# Altium footprint library GhaniLibrary.PcbLib: 33 footprints (part 1 of 3)
Each footprint in its own frame and in the unit in brackets; x right, y up, seen from the top. Pads: shape width x height; smd on the part's side, far side on the other; paste and mask are expansions set on the pad; w line width, h text height; cw(c..) or ccw(c..) is an arc to the next point about the centre after c.
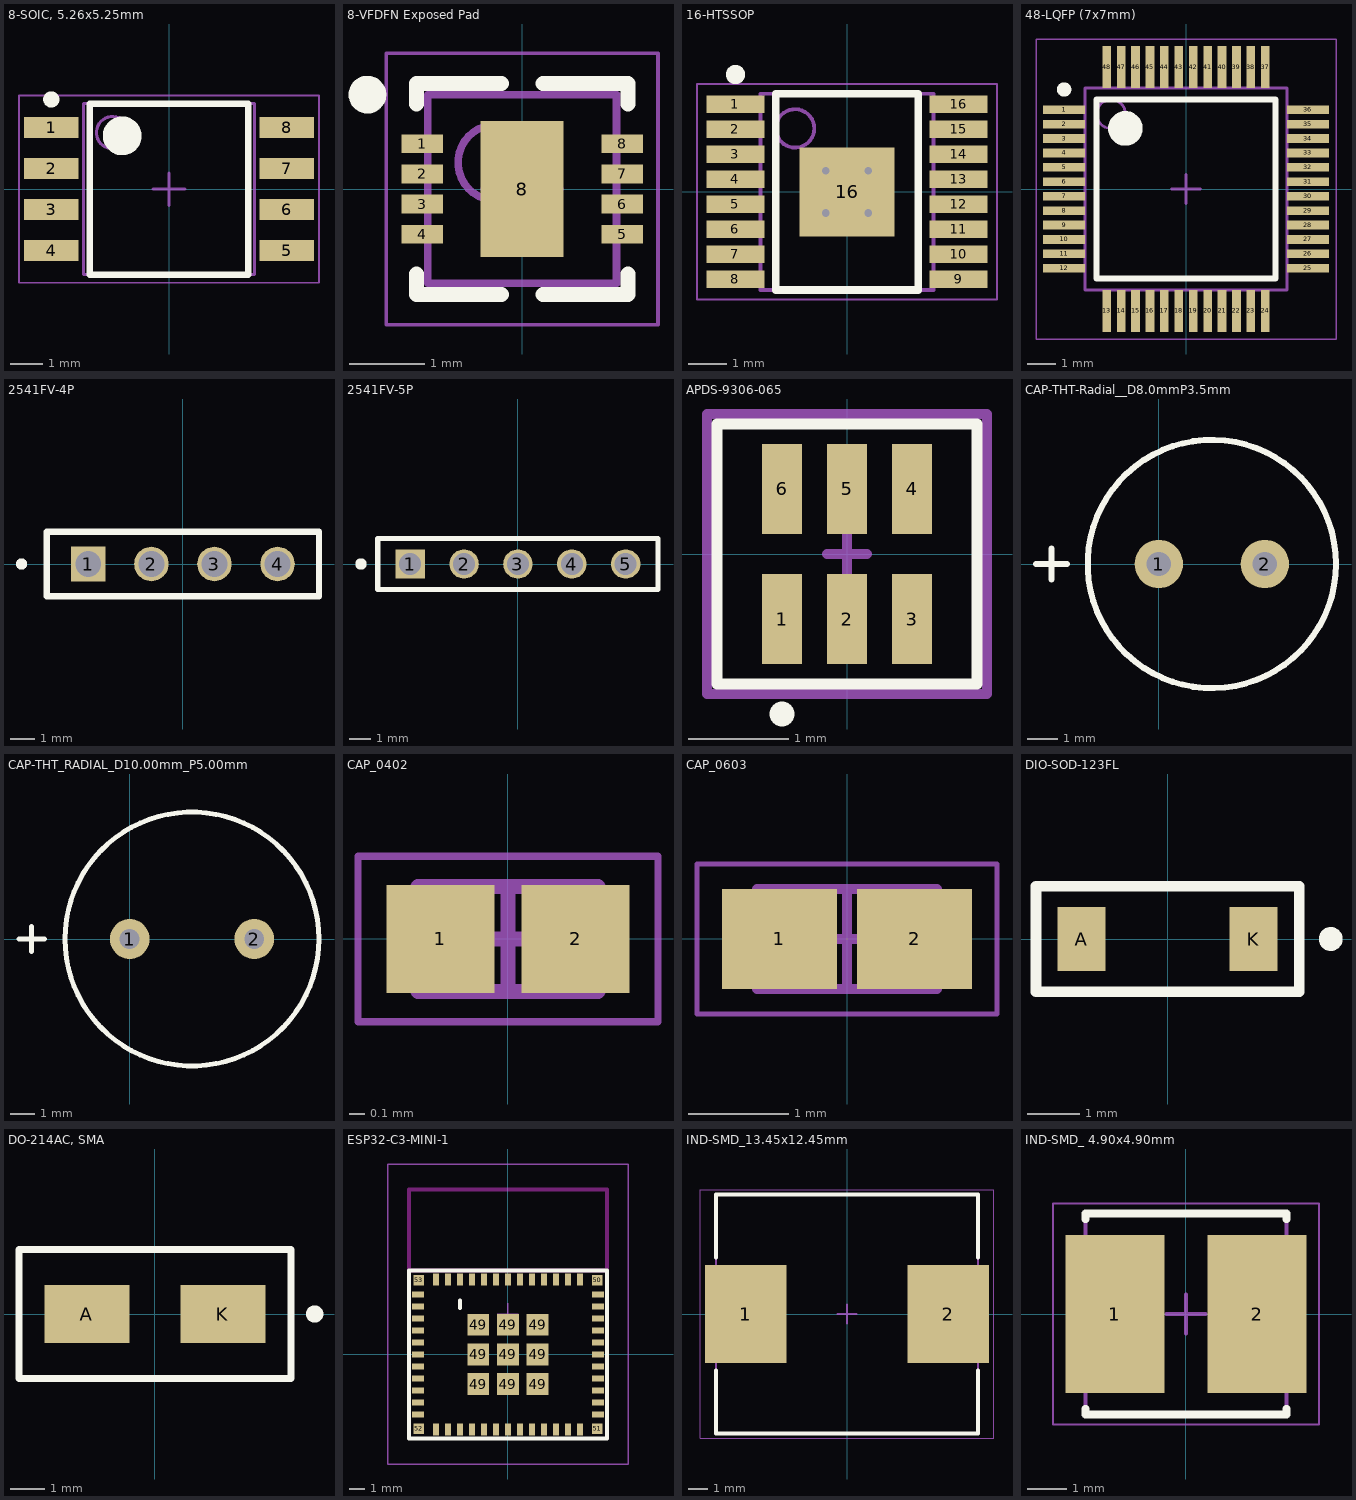
[diagram p0: the footprints below, top view; thin cyan lines are the x and y axes]

## 8-SOIC, 5.26x5.25mm [mm] "SOIC, 8-Leads, Body 5.26x5.25mm, Pitch 1.27mm, IPC Medium Density"
height 2.03
pads (8):
  rect 1.7x0.65 smd: 1(-3.65,1.905) 2(-3.65,0.635) 3(-3.65,-0.635) 4(-3.65,-1.905) 5(3.65,-1.905) 6(3.65,-0.635) 7(3.65,0.635) 8(3.65,1.905)
Top Overlay:
  circle w0.25: c-3.65,2.78 r0.125
  circle w0.6: c-1.45,1.65 r0.3
  lines w0.2: -2.45,-2.65 -2.45,2.65 2.45,2.65 2.45,-2.65 -2.45,-2.65
Mechanical 13:
  circle w0.1: c-1.75,1.75 r0.5
  lines w0.1: -2.65,-2.65 -2.65,2.65 2.65,2.65 2.65,-2.65 -2.65,-2.65
Mechanical 15:
  lines w0.05: -4.65,-2.9 -4.65,2.9 4.65,2.9 4.65,-2.9 -4.65,-2.9
  lines w0.1: -0.5,0 0.5,0 ; 0,-0.5 0,0.5
3D body "8-SOIC, 5.26x5.25mm .step": height 2.03, standoff 0, extent -3.97,-2.65 3.97,2.65

## 8-VFDFN Exposed Pad [mm] "QFN, 8-Leads, Body 2.45x2.45mm, Pitch 0.50mm/0.40mm, Thermal Pad 1.10x1.80mm, IPC Medium Density"
height 1
pads (9):
  rect 0.55x0.25 smd: 1(-1.325,0.6) 2(-1.325,0.2) 3(-1.325,-0.2) 4(-1.325,-0.6) 5(1.325,-0.6) 6(1.325,-0.2) 7(1.325,0.2) 8(1.325,0.6)
  rect 1.1x1.8 smd: 8(0,0)
Top Overlay:
  circle w0.25: c-2.05,1.25 r0.125
  lines w0.2: -1.4,-1.125 -1.4,-1.4 -0.275,-1.4 ; -1.4,1.125 -1.4,1.4 -0.275,1.4 ; 0.275,-1.4 1.4,-1.4 1.4,-1.125 ; 0.275,1.4 1.4,1.4 1.4,1.125
Mechanical 13:
  circle w0.1: c-0.35,0.35 r0.5
  lines w0.1: -1.25,-1.25 1.25,-1.25 1.25,1.25 -1.25,1.25 -1.25,-1.25
Mechanical 15:
  lines w0.05: -1.8,-1.8 1.8,-1.8 1.8,1.8 -1.8,1.8 -1.8,-1.8
  lines w0.1: -0.5,0 0.5,0 ; 0,-0.5 0,0.5
3D body "8-VFDFN Exposed Pad.step": height 1, standoff 0, extent -1.251,-1.25 1.251,1.25

## 16-HTSSOP [mm] "HTSSOP, 16-Leads, Body 5.00x4.40mm, Pitch 0.65mm, Thermal Pad 2.31x2.46mm, IPC Medium Density"
height 1.2
pads (17):
  rect 1.5x0.45 smd: 1(-2.9,2.275) 2(-2.9,1.625) 3(-2.9,0.975) 4(-2.9,0.325) 5(-2.9,-0.325) 6(-2.9,-0.975) 7(-2.9,-1.625) 8(-2.9,-2.275) 9(2.9,-2.275) 10(2.9,-1.625) 11(2.9,-0.975) 12(2.9,-0.325) 13(2.9,0.325) 14(2.9,0.975) 15(2.9,1.625) 16(2.9,2.275)
  rect 2.46x2.31 smd: 16(0,0)
via 0.55,-0.55 diameter 0.5 hole 0.2
via -0.55,-0.55 diameter 0.5 hole 0.2
via 0.55,0.55 diameter 0.5 hole 0.2
via -0.55,0.55 diameter 0.5 hole 0.2
Top Overlay:
  circle w0.25: c-2.9,3.05 r0.125
  lines w0.2: -1.85,-2.55 1.85,-2.55 1.85,2.55 -1.85,2.55 -1.85,-2.55
Mechanical 13:
  circle w0.1: c-1.35,1.65 r0.5
  lines w0.1: -2.25,-2.55 2.25,-2.55 2.25,2.55 -2.25,2.55 -2.25,-2.55
Mechanical 15:
  lines w0.05: -3.9,-2.8 3.9,-2.8 3.9,2.8 -3.9,2.8 -3.9,-2.8
  lines w0.1: -0.5,0 0.5,0 ; 0,-0.5 0,0.5
3D body "PWP0016C.stp": height 1.13, standoff 0, extent -3.2,-2.5 3.2,2.5

## 48-LQFP (7x7mm) [mm] "LQFP, 48-Leads, Body 7.00x7.00mm, Pitch 0.50mm, IPC Medium Density"
height 1.6
pads (48):
  rect 1.45x0.3 smd: 1(-4.225,2.75) 2(-4.225,2.25) 3(-4.225,1.75) 4(-4.225,1.25) 5(-4.225,0.75) 6(-4.225,0.25) 7(-4.225,-0.25) 8(-4.225,-0.75) 9(-4.225,-1.25) 10(-4.225,-1.75) 11(-4.225,-2.25) 12(-4.225,-2.75) 25(4.225,-2.75) 26(4.225,-2.25) 27(4.225,-1.75) 28(4.225,-1.25) 29(4.225,-0.75) 30(4.225,-0.25) 31(4.225,0.25) 32(4.225,0.75) 33(4.225,1.25) 34(4.225,1.75) 35(4.225,2.25) 36(4.225,2.75)
  rect 0.3x1.45 smd: 13(-2.75,-4.225) 14(-2.25,-4.225) 15(-1.75,-4.225) 16(-1.25,-4.225) 17(-0.75,-4.225) 18(-0.25,-4.225) 19(0.25,-4.225) 20(0.75,-4.225) 21(1.25,-4.225) 22(1.75,-4.225) 23(2.25,-4.225) 24(2.75,-4.225) 37(2.75,4.225) 38(2.25,4.225) 39(1.75,4.225) 40(1.25,4.225) 41(0.75,4.225) 42(0.25,4.225) 43(-0.25,4.225) 44(-0.75,4.225) 45(-1.25,4.225) 46(-1.75,4.225) 47(-2.25,4.225) 48(-2.75,4.225)
Top Overlay:
  circle w0.6: c-2.1,2.1 r0.3
  circle w0.25: c-4.225,3.45 r0.125
  lines w0.2: -3.1,-3.1 3.1,-3.1 3.1,3.1 -3.1,3.1 -3.1,-3.1
Mechanical 13:
  circle w0.1: c-2.6,2.6 r0.5
  lines w0.1: -3.5,-3.5 3.5,-3.5 3.5,3.5 -3.5,3.5 -3.5,-3.5
Mechanical 15:
  lines w0.05: -5.2,-5.2 5.2,-5.2 5.2,5.2 -5.2,5.2 -5.2,-5.2
  lines w0.1: -0.5,0 0.5,0 ; 0,-0.5 0,0.5
3D body "48-LQFP (7x7mm).step": height 1.6, standoff 0, extent -4.5,-4.5 4.5,4.5

## 2541FV-4P [mm]
pads (4):
  rect 1.39x1.39 hole 1.04: 1(-3.81,0)
  round 1.39 hole 1.04: 2(-1.27,0) 3(1.27,0) 4(3.81,0)
Top Overlay:
  circle w0.254: c-6.5,0 r0.1
  lines w0.254: -5.48,-1.3 5.48,-1.3 5.48,1.3 -5.48,1.3 -5.48,-1.3
3D body "CONN_4_HDR_0.1.STEP": height 8.52, standoff -3.19, extent -5.334,-1.27 5.334,1.27

## 2541FV-5P [mm]
pads (5):
  rect 1.39x1.39 hole 1.04: 1(-5.08,0)
  round 1.39 hole 1.04: 2(-2.54,0) 3(0,0) 4(2.54,0) 5(5.08,0)
Top Overlay:
  circle w0.254: c-7.4,0 r0.141
  lines w0.254: -6.605,-1.2 6.605,-1.2 6.605,1.2 3.302,1.2 -3.303,1.2 -6.605,1.2 -6.605,-1.2
3D body "ESW-105-59-S-S.stp": height 15.89, standoff -7.35, extent -6.603,-1.27 6.605,1.27

## APDS-9306-065 [mm]
pads (6):
  rect 0.4x0.9 smd: 1(-0.65,-0.65) 2(0,-0.65) 3(0.65,-0.65) 4(0.65,0.65) 5(0,0.65) 6(-0.65,0.65)
Top Overlay:
  lines w0.11: -1.3,-1.3 1.3,-1.3 1.3,1.3 -1.3,1.3 -1.3,-1.3
  lines w0.254: -0.65,-1.6 -0.65,-1.6
Mechanical 15:
  lines w0.1: -0.2,0 0.2,0 ; 0,-0.2 0,0.2 ; -1.4,-1.4 1.4,-1.4 1.4,1.4 -1.4,1.4 -1.4,-1.4
3D body "APDS-9306-065--3D.STEP": height 0.76, standoff 0.01, extent -1,-1 1,1

## CAP-THT-Radial__D8.0mmP3.5mm [mm]
pads (2):
  round 1.6 hole 0.8: 1(0,0) 2(3.5,0)
Top Overlay:
  circle w0.2: c1.75,0 r4.1
  lines w0.2: -4.056,0 -3.04,0 ; -3.548,-0.508 -3.548,0.508
3D body "EEU-FR1V221.STEP": height 10.56, standoff -17.94, extent -2.25,-3.992 5.75,3.992

## CAP-THT_RADIAL_D10.00mm_P5.00mm [mm]
pads (2):
  round 1.6 hole 0.8: 1(0,0) 2(5,0)
Top Overlay:
  circle w0.2: c2.5,0 r5.1
  lines w0.2: -4.445,0 -3.429,0 ; -3.937,-0.508 -3.937,0.508
3D body "EEUFR1A102_D10.STEP": height 16.01, standoff -16.99, extent -2.485,-4.98 7.5,5

## CAP_0402 [mm] "Chip Capacitor, 2-Leads, Body 1.00x0.50mm, IPC Medium Density"
height 0.7
pads (2):
  rect 0.72x0.72 smd: 1(-0.45,0) 2(0.45,0)
Mechanical 13:
  lines w0.1: -0.6,-0.35 0.6,-0.35 0.6,0.35 -0.6,0.35 -0.6,-0.35
Mechanical 15:
  lines w0.05: -1,-0.55 1,-0.55 1,0.55 -1,0.55 -1,-0.55
  lines w0.1: -0.35,0 0.35,0 ; 0,-0.35 0,0.35
3D body "CAP_0402.step": height 0.7, standoff 0, extent -0.6,-0.35 0.6,0.35

## CAP_0603 [mm] "Chip Capacitor, 2-Leads, Body 1.60x0.80mm, IPC Medium Density"
height 1
pads (2):
  rect 1.15x1 smd: 1(-0.675,0) 2(0.675,0)
Mechanical 13:
  lines w0.1: -0.9,-0.5 -0.9,0.5 0.9,0.5 0.9,-0.5 -0.9,-0.5
Mechanical 15:
  lines w0.05: -1.5,-0.75 -1.5,0.75 1.5,0.75 1.5,-0.75 -1.5,-0.75
  lines w0.1: -0.5,0 0.5,0 ; 0,-0.5 0,0.5
3D body "CAP_0603.step": height 1, standoff 0, extent -0.9,-0.5 0.9,0.5

## DIO-SOD-123FL [mm]
pads (2):
  rect 0.91x1.22 smd: A(-1.635,0) K(1.635,0)
Top Overlay:
  circle w0.254: c3.1,0 r0.1
  lines w0.2: -2.5,-1 -2.5,0 -2.5,1 2.5,1 2.5,-1 -2.5,-1
3D body "SM5817PL-TP.STEP": height 1.21, standoff 0.01, extent -1.847,-0.825 1.847,0.825

## DO-214AC, SMA [mm]
pads (2):
  rect 2.5x1.7 smd: A(-2,0) K(2,0)
Top Overlay:
  circle w0.254: c4.699,0 r0.127
  lines w0.2: -4,-1.9 -4,0 -4,1.9 4,1.9 4,-1.9 -4,-1.9
3D body "B340AE-13.STEP": height 2.4, standoff 0, extent -2.598,-1.302 2.598,1.302

## ESP32­C3­MINI­1 [mm]
pads (61):
  rect 0.8x0.4 smd: 1(-6,4) 2(-6,3.2) 3(-6,2.4) 4(-6,1.6) 5(-6,0.8) 6(-6,0) 7(-6,-0.8) 8(-6,-1.6) 9(-6,-2.4) 10(-6,-3.2) 11(-6,-4) 25(6,-4) 26(6,-3.2) 27(6,-2.4) 28(6,-1.6) 29(6,-0.8) 30(6,0) 31(6,0.8) 32(6,1.6) 33(6,2.4) 34(6,3.2) 35(6,4)
  rect 0.4x0.8 smd: 12(-4.8,-5) 13(-4,-5) 14(-3.2,-5) 15(-2.4,-5) 16(-1.6,-5) 17(-0.8,-5) 18(0,-5) 19(0.8,-5) 20(1.6,-5) 21(2.4,-5) 22(3.2,-5) 23(4,-5) 24(4.8,-5) 36(4.8,5) 37(4,5) 38(3.2,5) 39(2.4,5) 40(1.6,5) 41(0.8,5) 42(0,5) 43(-0.8,5) 44(-1.6,5) 45(-2.4,5) 46(-3.2,5) 47(-4,5) 48(-4.8,5)
  rect 1.45x1.45 smd: 49(-1.975,-1.975) 49(-1.975,0) 49(-1.975,1.975) 49(0,-1.975) 49(0,0) 49(0,1.975) 49(1.975,-1.975) 49(1.975,0) 49(1.975,1.975)
  rect 0.7x0.7 smd: 50(5.95,4.95) 51(5.95,-4.95) 52(-5.95,-4.95) 53(-5.95,4.95)
Top Overlay:
  lines w0.254: -3.2,3.1 -3.2,3.6 ; -6.6,-5.6 6.6,-5.6 6.6,5.6 -6.6,5.6 -6.6,-5.6
Keep-Out Layer:
  lines w0.254: -6.6,5.6 6.6,5.6 6.6,11 -6.6,11 -6.6,5.6
Mechanical 15:
  lines w0.1: -0.7,2.7 0.7,2.7 ; 0,2 0,3.4 ; -8,-7.3 8,-7.3 8,12.7 -8,12.7 -8,-7.3
3D body "ESP32-C3-MINI-1-N4--3DModel-STEP-1.STEP": height 2.56, standoff 0.01, extent -6.6,-5.6 6.6,11

## IND-SMD_13.45x12.45mm [mm] "Precision Wire Wound Inductor, 2-Leads, Body 13.45x12.45mm, IPC Medium Density"
height 6
pads (2):
  rect 4.3x5.15 smd: 1(-5.325,0) 2(5.325,0)
Top Overlay:
  lines w0.2: -6.9,-2.975 -6.9,-6.3 6.9,-6.3 6.9,-2.975 ; -6.9,2.975 -6.9,6.3 6.9,6.3 6.9,2.975
Mechanical 13:
  lines w0.1: -6.9,-6.3 -6.9,6.3 6.9,6.3 6.9,-6.3 -6.9,-6.3
Mechanical 15:
  lines w0.05: -7.725,-6.55 -7.725,6.55 7.725,6.55 7.725,-6.55 -7.725,-6.55
  lines w0.1: -0.5,0 0.5,0 ; 0,-0.5 0,0.5
3D body "IND-13.45x12.45mm.step": height 6.1, standoff 0, extent -6.825,-6.225 6.825,6.225

## IND-SMD_ 4.90x4.90mm [mm] "Precision Wire Wound Inductor, 2-Leads, Body 4.90x4.90mm, IPC Medium Density"
height 2
pads (2):
  rect 2.5x4 smd: 1(-1.8,0) 2(1.8,0)
Top Overlay:
  lines w0.2: -2.55,-2.4 -2.55,-2.55 2.55,-2.55 2.55,-2.4 ; -2.55,2.4 -2.55,2.55 2.55,2.55 2.55,2.4
Mechanical 13:
  lines w0.1: -2.55,-2.55 -2.55,2.55 2.55,2.55 2.55,-2.55 -2.55,-2.55
Mechanical 15:
  lines w0.05: -3.375,-2.8 -3.375,2.8 3.375,2.8 3.375,-2.8 -3.375,-2.8
  lines w0.1: -0.5,0 0.5,0 ; 0,-0.5 0,0.5
3D body "IND-SMD_ 4.90x4.90mm.step": height 2.1, standoff 0, extent -2.55,-2.45 2.55,2.45